# EAGLE library part DIL8 (library custom)
Dual In Line / Socket
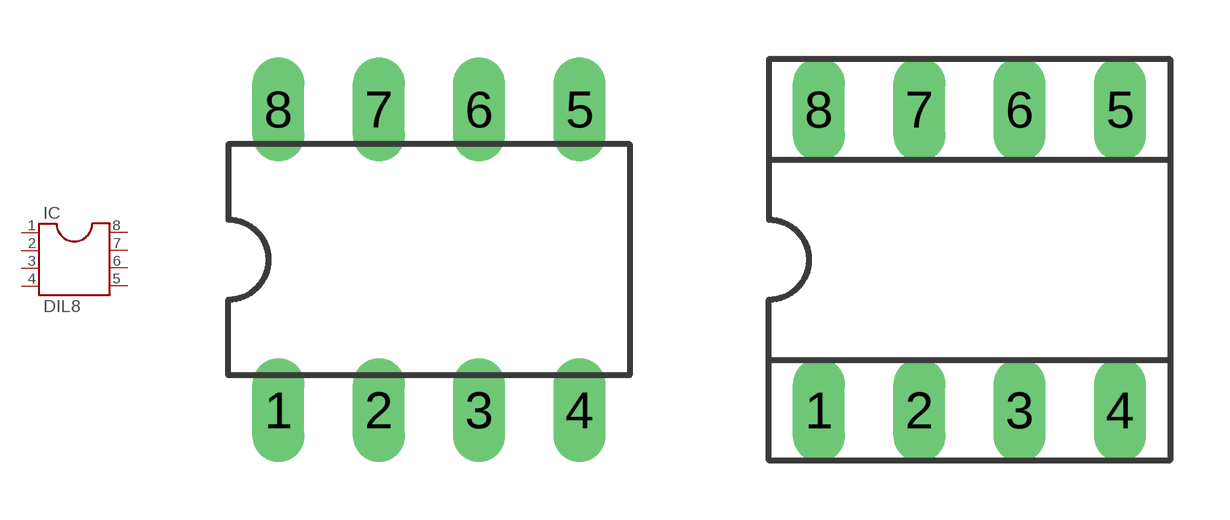
[diagram p7: symbol with the pads of DIL08; footprints DIL08, SOCKET-08]

Designator prefix IC

## DIL8  [DIL08]
1  SS  pas
2  SCK  pas
3  MOSI  pas
4  GND  pas
5  B  pas
6  W  pas
7  A  pas
8  +5V  pas

## DIL8S  [SOCKET-08]
Pads as for DIL08

## Footprint DIL08 (pad centres in mm)
Dual In Line Package
drill 0.813 long: 1 -3.81,-3.81; 2 -1.27,-3.81; 3 1.27,-3.81; 4 3.81,-3.81; 5 3.81,3.81; 6 1.27,3.81; 7 -1.27,3.81; 8 -3.81,3.81

## Footprint SOCKET-08 (pad centres in mm)
Dual In Line Socket
drill 0.813 long: 1 -3.81,-3.81; 2 -1.27,-3.81; 3 1.27,-3.81; 4 3.81,-3.81; 5 3.81,3.81; 6 1.27,3.81; 7 -1.27,3.81; 8 -3.81,3.81